# EAGLE library part DRV8871 (library power)
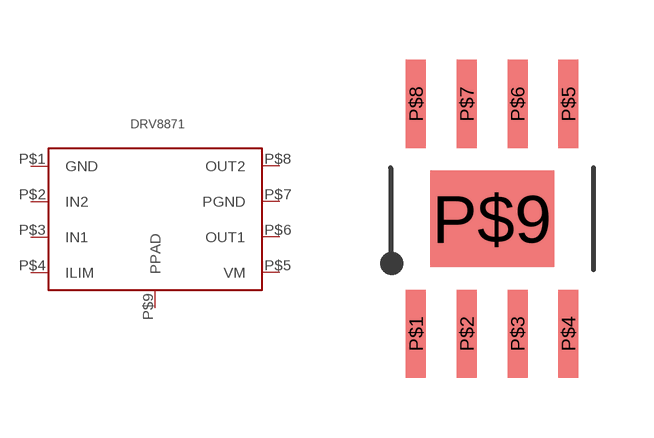
[diagram p1: symbol with the pads of DDA(8-POWERSOIC); footprint DDA(8-POWERSOIC)]

Designator prefix U

## DRV8871  [DDA(8-POWERSOIC)]
P$1  GND
P$2  IN2
P$3  IN1
P$4  ILIM
P$5  VM
P$6  OUT1
P$7  PGND
P$8  OUT2
P$9  PPAD

## Footprint DDA(8-POWERSOIC) (pad centres in mm)
8-PowerSOIC DDA(R-PDSO-G9) (0.154", 3.90mm Width)
smd 0.5 x 2.2: P$1 -1.905,-2.875; P$2 -0.635,-2.875; P$3 0.635,-2.875; P$4 1.905,-2.875; P$5 1.905,2.875; P$6 0.635,2.875; P$7 -0.635,2.875; P$8 -1.905,2.875
smd 3.1 x 2.4: P$9 0,0